# Altium footprint library potentiometer.PcbLib: 1 footprints
Each footprint in its own frame and in the unit in brackets; x right, y up, seen from the top. Pads: shape width x height; smd on the part's side, far side on the other; paste and mask are expansions set on the pad; w line width, h text height; cw(c..) or ccw(c..) is an arc to the next point about the centre after c.
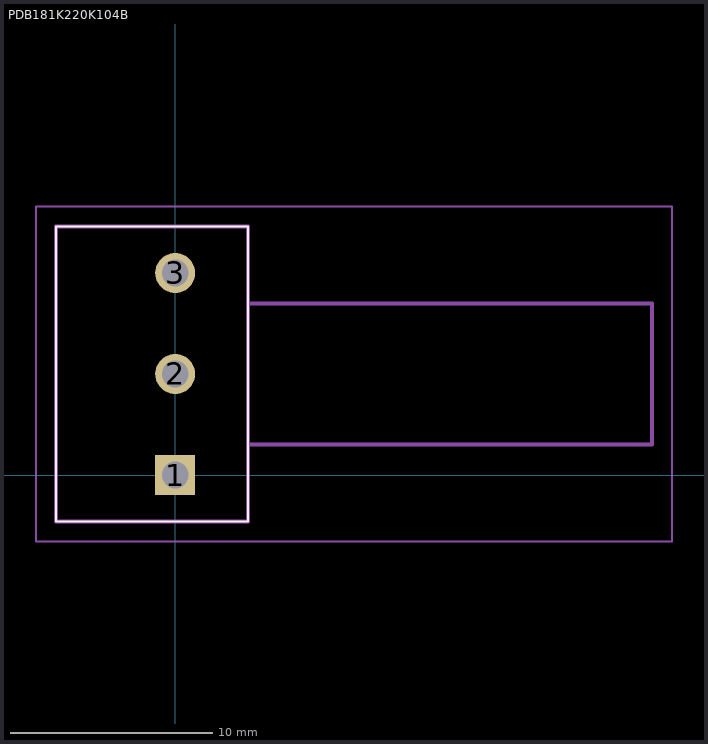
[diagram p0: the footprint, top view; thin cyan lines are the x and y axes]

## PDB181K220K104B [mm]
pads (3):
  rect 1.98x1.98 hole 1.32: 1(0,0)
  round 1.98 hole 1.32: 2(0,5) 3(0,10)
Top Overlay:
  lines w0.1: -5.9,-2.3 -1.4,-2.3 3.6,-2.3 3.6,12.3 -1.4,12.3 -5.9,12.3 -5.9,-2.3
Mechanical 13:
  lines w0.2: 3.6,1.5 23.6,1.5 23.6,8.5 3.6,8.5 ; -5.9,-2.3 -5.9,12.3 3.6,12.3 3.6,-2.3 -5.9,-2.3
Mechanical 15:
  lines w0.1: -6.9,-3.3 -6.9,13.3 24.6,13.3 24.6,-3.3 -6.9,-3.3
3D body "PDB181-K420K-503A2--3DModel-STEP-56544.STEP": height 22.47, standoff -2.53, extent -5.715,-3.556 23.785,13.442